# Altium footprint library Kelpie_Pi_Hat_PCB_Lib.PcbLib: 2 footprints
Each footprint in its own frame and in the unit in brackets; x right, y up, seen from the top. Pads: shape width x height; smd on the part's side, far side on the other; paste and mask are expansions set on the pad; w line width, h text height; cw(c..) or ccw(c..) is an arc to the next point about the centre after c.
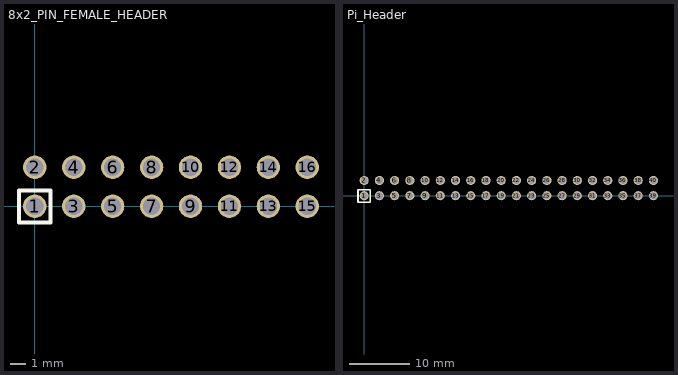
[diagram p0: the footprints below, top view; thin cyan lines are the x and y axes]

## 8x2_PIN_FEMALE_HEADER [mil] "https://core-electronics.com.au/0-100-2-54-mm-female-header-2x8-pin-straight.html"
pads (16):
  round 60 hole 44.09: 1(0,0) 2(0,100) 3(100,0) 4(100,100) 5(200,0) 6(200,100) 7(300,0) 8(300,100) 9(400,0) 10(400,100) 11(500,0) 12(500,100) 13(600,0) 14(600,100) 15(700,0) 16(700,100)
Top Overlay:
  lines w10: -40.55,-41.73 40.55,-41.73 40.55,40.55 -40.55,40.55 -40.55,-41.73
3D body "offshelf_2x8f_header.stp": height 188.19, standoff -125.98, extent -57.87,-390.15 757.87,113

## Pi_Header [mil] "40 Pin (20x2) Female Header Row (Adafruit 2243)"
pads (40):
  round 60 hole 44.09: 1(0,0) 2(0,100) 3(100,0) 4(100,100) 5(200,0) 6(200,100) 7(300,0) 8(300,100) 9(400,0) 10(400,100) 11(500,0) 12(500,100) 13(600,0) 14(600,100) 15(700,0) 16(700,100) 17(800,0) 18(800,100) 19(900,0) 20(900,100) 21(1000,0) 22(1000,100) 23(1100,0) 24(1100,100) 25(1200,0) 26(1200,100) 27(1300,0) 28(1300,100) 29(1400,0) 30(1400,100) 31(1500,0) 32(1500,100) 33(1600,0) 34(1600,100) 35(1700,0) 36(1700,100) 37(1800,0) 38(1800,100) 39(1900,0) 40(1900,100)
Top Overlay:
  lines w10: -40.55,-41.73 40.55,-41.73 40.55,40.55 -40.55,40.55 -40.55,-41.73
3D body "Header_2x20_2.54_Pitch.SLDPRT": height 82.68, standoff -212.6, extent -64.96,-47.24 1962.6,149.61